# Altium schematic symbol library NX_LDO6.SchLib: 1 symbol
Pins are listed as number, name and electrical type; pins without a type are passive.

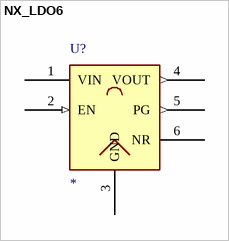
[diagram p0: symbol NX_LDO6]

## NX_LDO6
designator U?
6-pin LDO test part
pins: 1 VIN (power), 2 EN (in), 3 GND (power), 4 VOUT (out), 5 PG (out), 6 NR